# EAGLE library part ARDUINO_SHIELD (library Boards)
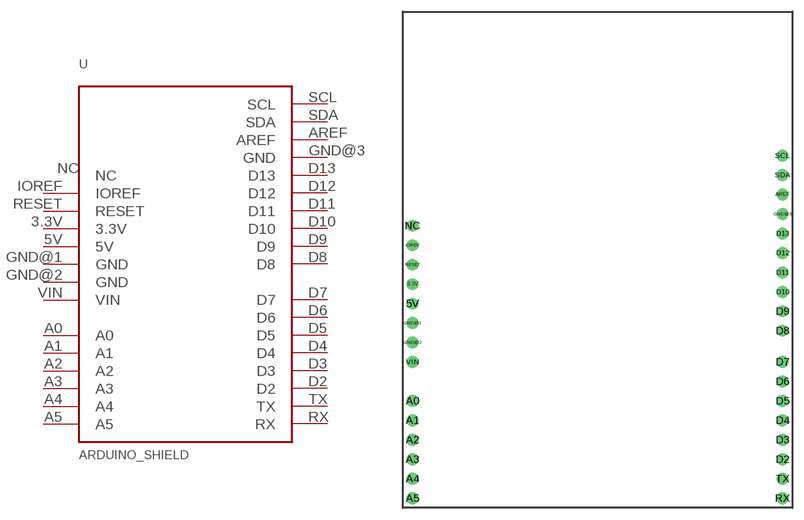
[diagram p1: symbol with the pads of ARDUINO_SHIELD; footprint ARDUINO_SHIELD]

Designator prefix -

## ARDUINO_SHIELD  [ARDUINO_SHIELD]
3.3V  3.3V  pwr
5V  5V  pwr
A0  A0
A1  A1
A2  A2
A3  A3
A4  A4
A5  A5
AREF  AREF  pwr
D2  D2
D3  D3
D4  D4
D5  D5
D6  D6
D7  D7
D8  D8
D9  D9
D10  D10
D11  D11
D12  D12
D13  D13
GND@1  GND  pwr
GND@2  GND  pwr
GND@3  GND  pwr
IOREF  IOREF  pwr
NC  NC
RESET  RESET
RX  RX
SCL  SCL
SDA  SDA
TX  TX
VIN  VIN  pwr

## Footprint ARDUINO_SHIELD (pad centres in mm)
drill 1.016: 3.3V -25.4,-1.27; 5V -25.4,-3.81; A0 -25.4,-16.51; A1 -25.4,-19.05; A2 -25.4,-21.59; A3 -25.4,-24.13; A4 -25.4,-26.67; A5 -25.4,-29.21; AREF 22.86,10.414; D2 22.86,-24.13; D3 22.86,-21.59; D4 22.86,-19.05; D5 22.86,-16.51; D6 22.86,-13.97; D7 22.86,-11.43; D8 22.86,-7.366; D9 22.86,-4.826; D10 22.86,-2.286; D11 22.86,0.254; D12 22.86,2.794; D13 22.86,5.334; GND@1 -25.4,-6.35; GND@2 -25.4,-8.89; GND@3 22.86,7.874; IOREF -25.4,3.81; NC -25.4,6.35; RESET -25.4,1.27; RX 22.86,-29.21; SCL 22.86,15.494; SDA 22.86,12.954; TX 22.86,-26.67; VIN -25.4,-11.43